# Altium footprint library Nucleo_Dory_QFN68.PcbLib: 55 footprints (part 2 of 4)
Each footprint in its own frame and in the unit in brackets; x right, y up, seen from the top. Pads: shape width x height; smd on the part's side, far side on the other; paste and mask are expansions set on the pad; w line width, h text height; cw(c..) or ccw(c..) is an arc to the next point about the centre after c.
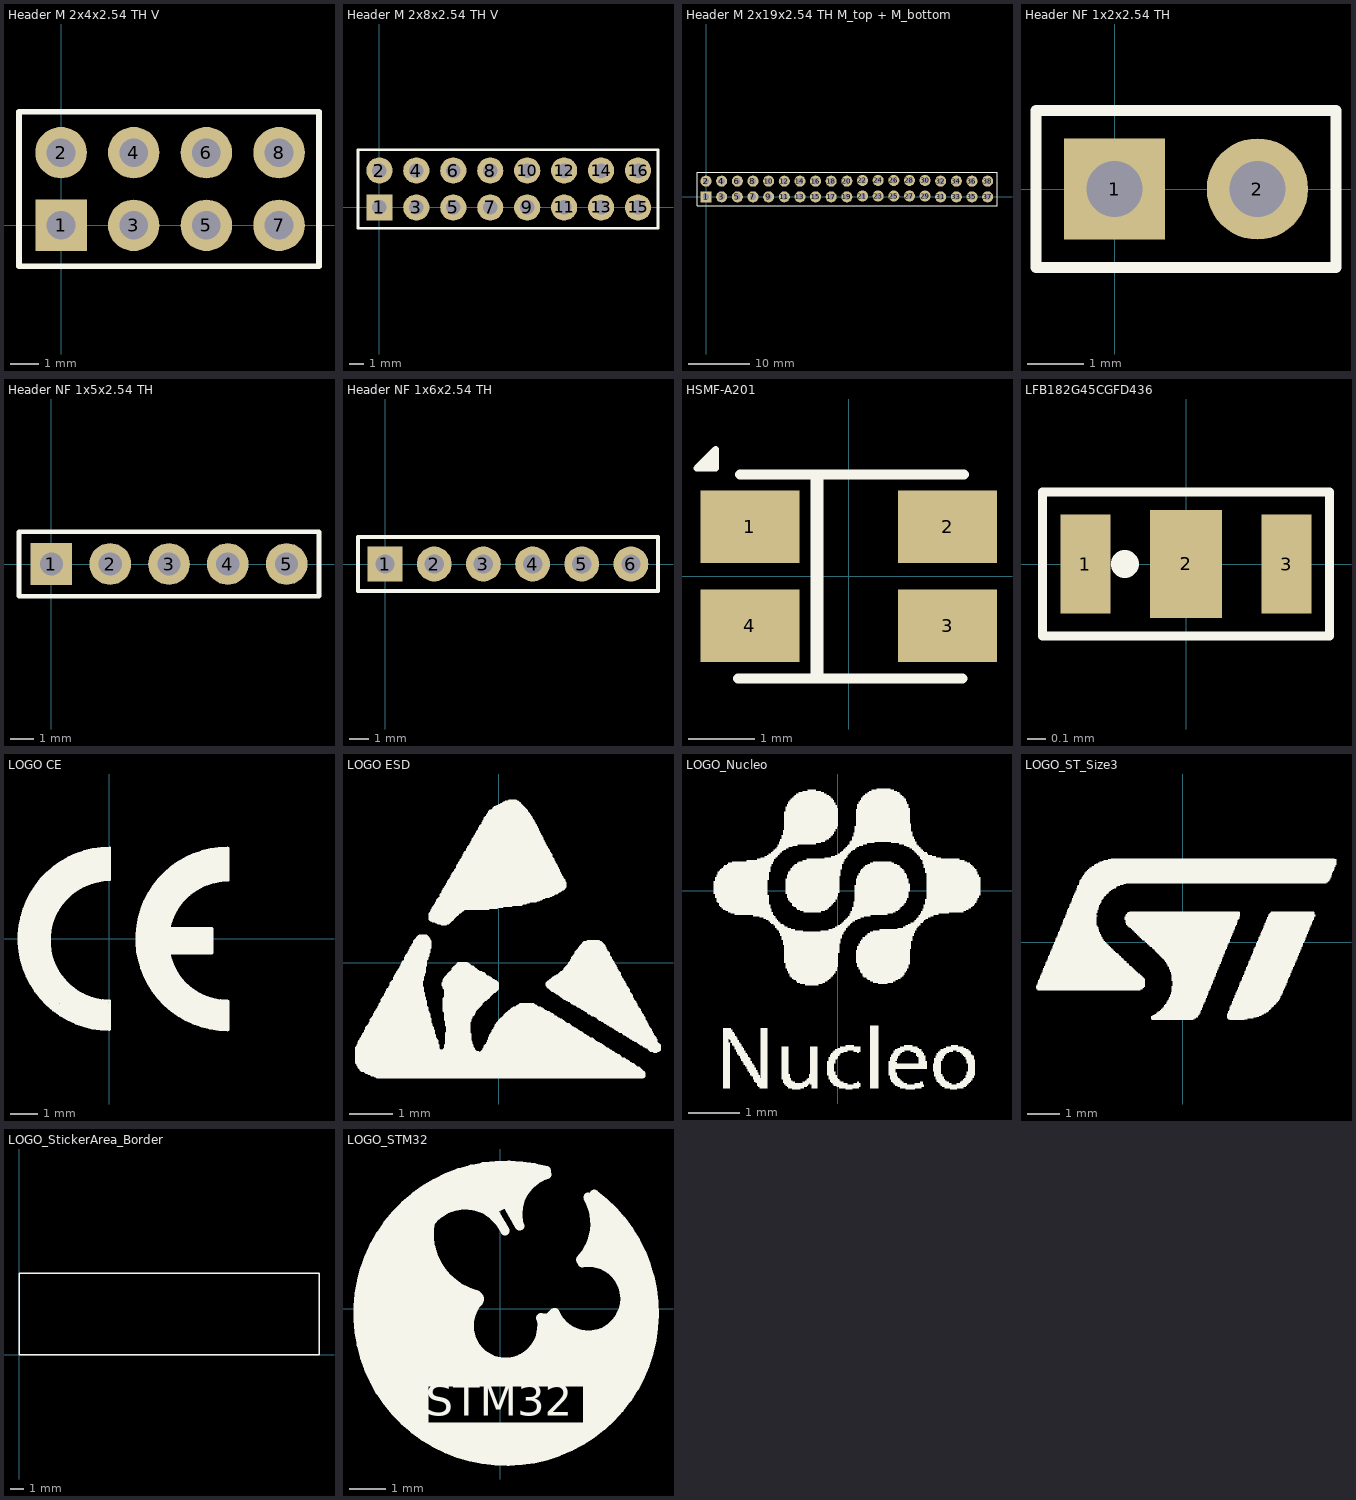
[diagram p1: the footprints below, top view; thin cyan lines are the x and y axes]

## Header M 2x4x2.54 TH V [mm]
pads (8):
  rect 1.8x1.8 hole 1: 1(0,0)
  round 1.8 hole 1: 2(0,2.54) 3(2.54,0) 4(2.54,2.54) 5(5.08,0) 6(5.08,2.54) 7(7.62,0) 8(7.62,2.54)
Top Overlay:
  lines w0.2: -1.47,-1.43 -1.47,3.97 9.017,3.97 9.017,-1.43 -1.47,-1.43
3D body "pin_header_awl254-dg-g08d.stp": height 8.5, standoff -3, extent -1.295,-1.295 8.865,3.785

## Header M 2x8x2.54 TH V [mm]
pads (16):
  rect 1.8x1.8 hole 1: 1(0,0)
  round 1.8 hole 1: 2(0,2.54) 3(2.54,0) 4(2.54,2.54) 5(5.08,0) 6(5.08,2.54) 7(7.62,0) 8(7.62,2.54) 9(10.16,0) 10(10.16,2.54) 11(12.7,0) 12(12.7,2.54) 13(15.24,0) 14(15.24,2.54) 15(17.78,0) 16(17.78,2.54)
Top Overlay:
  lines w0.2: -1.47,-1.43 -1.47,3.97 19.152,3.97 19.152,-1.43 -1.47,-1.43
3D body "pin_header_awl254-dg-g16d.stp": height 8.5, standoff -3, extent -1.321,-1.27 18.999,3.81

## Header M 2x19x2.54 TH M_top + M_bottom [mm]
pads (38):
  rect 1.8x1.8 hole 1: 1(0,0)
  round 1.8 hole 1: 2(0,2.54) 3(2.54,0) 4(2.54,2.54) 5(5.08,0) 6(5.08,2.54) 7(7.62,0) 8(7.62,2.54) 9(10.16,0) 10(10.16,2.54) 11(12.7,0) 12(12.7,2.54) 13(15.24,0) 14(15.24,2.54) 15(17.78,0) 16(17.78,2.54) 17(20.32,0) 18(20.32,2.54) 19(22.86,0) 20(22.86,2.54) 21(25.4,0.127) 22(25.4,2.667) 23(27.94,0.127) 24(27.94,2.667) 25(30.48,0.127) 26(30.48,2.667) 27(33.02,0.127) 28(33.02,2.667) 29(35.56,0.127) 30(35.56,2.667) 31(38.1,0) 32(38.1,2.54) 33(40.64,0) 34(40.64,2.54) 35(43.18,0) 36(43.18,2.54) 37(45.72,0) 38(45.72,2.54)
Top Overlay:
  lines w0.2: -1.47,-1.43 -1.47,3.97 47.244,3.97 47.244,-1.43 -1.47,-1.43
3D body "Samtec-MTSW-119-09-F-D-230.step": height 8.38, standoff -10.16, extent -1.321,-1.245 46.939,3.835

## Header NF 1x2x2.54 TH [mm]
pads (2):
  rect 1.8x1.8 hole 1: 1(0,0)
  round 1.8 hole 1: 2(2.54,0)
Top Overlay:
  lines w0.2: -1.397,-1.397 -1.397,1.397 3.937,1.397 3.937,-1.397 -1.397,-1.397

## Header NF 1x5x2.54 TH [mm]
pads (5):
  rect 1.8x1.8 hole 1: 1(0,0)
  round 1.8 hole 1: 2(2.54,0) 3(5.08,0) 4(7.62,0) 5(10.16,0)
Top Overlay:
  lines w0.2: -1.397,-1.397 -1.397,1.397 11.557,1.397 11.557,-1.397 -1.397,-1.397

## Header NF 1x6x2.54 TH [mm]
pads (6):
  rect 1.8x1.8 hole 1: 1(0,0)
  round 1.8 hole 1: 2(2.54,0) 3(5.08,0) 4(7.62,0) 5(10.16,0) 6(12.7,0)
Top Overlay:
  lines w0.2: -1.397,-1.397 14.097,-1.397 14.097,1.397 -1.397,1.397 -1.397,-1.397

## HSMF-A201 [mm]
pads (4):
  rect 1.5x1.1 smd: 1(-1.5,0.75) 2(1.5,0.75) 3(1.5,-0.75) 4(-1.5,-0.75)
Top Overlay:
  lines w0.1: -2.07,1.784 -2.07,1.683 -2.197,1.683 -2.019,1.861 -2.019,1.926 ; -2.019,1.926 -2.302,1.643 -2.019,1.643 -2.019,1.926
  lines w0.152: -1.676,-1.549 1.724,-1.549 ; -1.651,1.549 1.749,1.549
  lines w0.2: -0.483,-1.499 -0.483,1.524
3D body: height 1.2, standoff 0.1, extent -1.6,-1.4 1.6,1.4
3D body: height 1.3, standoff 1.2, extent -1.45,0.13 1.45,1.25
3D body: height 1.3, standoff 1.2, extent -1.45,-1.25 1.45,-0.13

## Jumper 2.54mm BLACK [mm]
3D body "Jumper 2_54mm.step": height 8.5, standoff 2.5, extent -2.5,-1.2 2.5,1.2

## LFB182G45CGFD436 [mm]
pads (3):
  rect 0.28x0.55 smd mask-0.01: 1(-0.56,0) 3(0.56,0)
  rect 0.4x0.6 smd mask-0.01: 2(0,0)
Top Overlay:
  circle w0.15: c-0.34,0 r0.002
  lines w0.05: -0.8,-0.4 -0.8,0.4 0.8,0.4 0.8,-0.4 -0.8,-0.4
3D body: height 0.65, standoff 0, extent -0.791,-0.392 0.797,0.393
3D body: height 0.66, standoff 0.65, extent -0.544,-0.104 -0.344,0.096

## LOGO CE [mm]
Top Overlay:
  drawing of 290 lines, arcs and shapes, not listed

## LOGO ESD [mm]
Top Overlay:
  drawing of 457 lines, arcs and shapes, not listed

## LOGO_Nucleo [mm]
Top Overlay:
  drawing of 787 lines, arcs and shapes, not listed

## LOGO_Nucleo_www [mm]

## LOGO_ST_Size3 [mm]
Top Overlay:
  drawing of 421 lines, arcs and shapes, not listed

## LOGO_StickerArea_Border [mm]
Top Overlay:
  lines w0.1: 0,0 22,0 22,6 0,6 0,0

## LOGO_STM32 [mm]
Top Overlay:
  region: 2.575,3.175 2.4,3.05 2.6,2.375 2.375,1.6 2.25,1.375 2.325,1.3 2.75,1.25 3.275,0.85 3.425,0.1 3.25,-0.35 4.175,-0.35 4.2,0.525 3.725,1.925 3,2.8 2.55,3.2
  region: -2.05,-3.125 2.275,-3.125 2.275,-1.95 3.75,-1.95 3.275,-2.75 2.45,-3.5 0.975,-4.125 -0.025,-4.225 -1.2,-3.975 -2.1,-3.525
  region: 1.2,3.75 0.1,3.9 -1.075,3.75 -2.35,3.05 -3.35,2 -3.75,0.9 -3.85,-0.325 -3.65,-1.55 -2.825,-2.925 -1.975,-3.625 -1.975,-2.125 3.7,-2.125 4.325,-0.25 3.275,-0.25 2.725,-0.75 1.875,-0.625 1.55,-0.225 1.15,-0.275 1,-1.025 0.65,-1.4 -0.175,-1.475 -0.725,-1.075 -0.9,-0.325 -0.625,0.25 -0.725,0.425 -1.075,0.525 -1.875,1.4 -1.975,2.425 -1.475,2.75 -0.65,2.875 -0.3,2.625 0.15,2.85 0.325,2.7 0.475,2.75 0.675,3.3
  lines w0.254: -1.933,2.358 ccw(c-0.217,2.073) -0.775,0.425 ; -1.925,2.375 cw(c-0.968,1.662) 0.125,2.139 ; -0.717,0.4 cw(c-0.721,0.254) -0.575,0.25 ; -0.611,0.194 ccw(c0.142,-0.465) 1.114,-0.232 ; -0.222,2.728 0.125,2.15 ; -0.175,2.75 0.15,2.9 ; 0.175,2.9 0.528,2.275 ; 0.525,2.275 cw(c1.607,2.608) 1.274,3.69 ; 1.107,-0.25 1.35,-0.25 ; 1.267,3.793 ccw(c0.157,-0.117) 2.575,3.15 ; 1.33,-0.245 1.475,-0.1 ; 1.495,-0.105 ccw(c2.417,0.282) 2.247,1.267 ; 2.2,1.35 ccw(c1.146,2.343) 2.401,3.066
  text "STM32" at -2.05,-3.225 h1.5